# EAGLE library part EC2-5TNU (library EC2-5TNU)
Relay; E-Mech; Latching; DPDT; Ctrl-V 5DC; 2A; 250VAC; PCB Mnt; Thru Hole; EC2/EE2 Series Check prices <https://pricing.snapeda.com/parts/EC2-5TNU/KEMET/view-part?ref=eda>
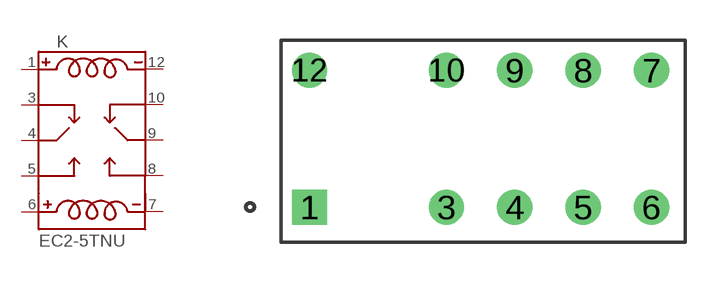
[diagram p0: symbol with the pads of RELAY_EC2-5TNU; footprint RELAY_EC2-5TNU]

Designator prefix K

## EC2-5TNU (Availability: Good; Description: General Purpose Relay DPDT (2 Form C) Through Hole; MF: KEMET; MP: EC2-5TNU; Package: None; Price: None; Purchase-URL: https://pricing.snapeda.com/search/part/EC2-5TNU/?ref=eda)  [RELAY_EC2-5TNU]
1  C1  pas
3  NC1  pas
4  M1  pas
5  NO1  pas
6  C3  pas
7  C4  pas
8  NO  pas
9  M  pas
10  NC  pas
12  C2  pas

## Footprint RELAY_EC2-5TNU (pad centres in mm)
drill 0.8 square: 1 -6.45,-2.44
drill 0.8: 3 -1.37,-2.44; 4 1.17,-2.44; 5 3.71,-2.44; 6 6.25,-2.44; 7 6.25,2.64; 8 3.71,2.64; 9 1.17,2.64; 10 -1.37,2.64; 12 -6.45,2.64